# Altium schematic symbol library HEADER-Nx1.SchLib: 16 symbols
Pins are listed as number, name and electrical type; pins without a type are passive.

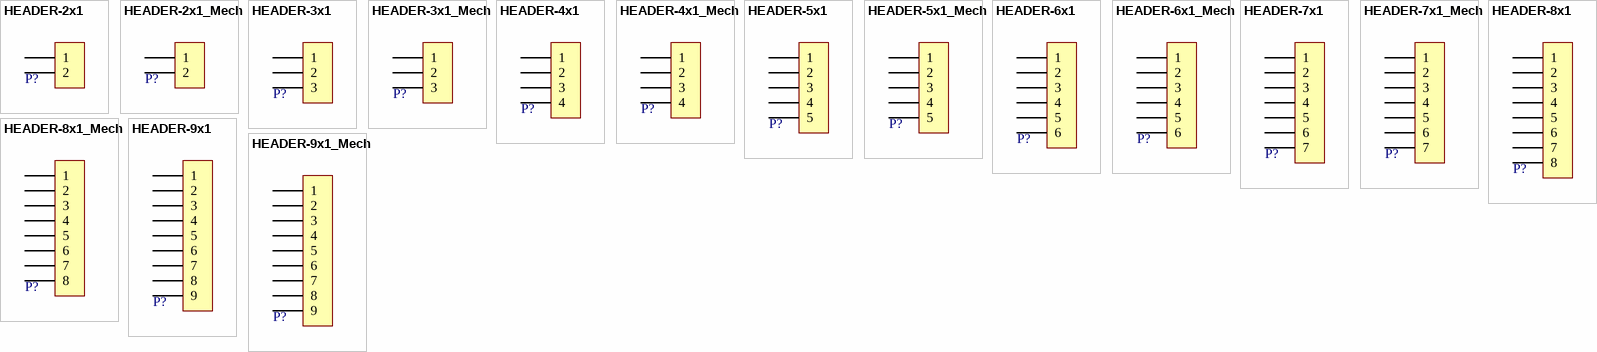
[diagram p0: symbols HEADER-2x1 to HEADER-9x1_Mech]

## HEADER-2x1
designator P?
pins: 1, 2

## HEADER-2x1_Mech
designator P?  (mechanical)
pins: 1, 2

## HEADER-3x1
designator P?
pins: 1, 2, 3

## HEADER-3x1_Mech
designator P?  (mechanical)
pins: 1, 2, 3

## HEADER-4x1
designator P?
pins: 1, 2, 3, 4

## HEADER-4x1_Mech
designator P?  (mechanical)
pins: 1, 2, 3, 4

## HEADER-5x1
designator P?
pins: 1, 2, 3, 4, 5

## HEADER-5x1_Mech
designator P?  (mechanical)
pins: 1, 2, 3, 4, 5

## HEADER-6x1
designator P?
pins: 1, 2, 3, 4, 5, 6

## HEADER-6x1_Mech
designator P?  (mechanical)
pins: 1, 2, 3, 4, 5, 6

## HEADER-7x1
designator P?
pins: 1, 2, 3, 4, 5, 6, 7

## HEADER-7x1_Mech
designator P?  (mechanical)
pins: 1, 2, 3, 4, 5, 6, 7

## HEADER-8x1
designator P?
pins: 1, 2, 3, 4, 5, 6, 7, 8

## HEADER-8x1_Mech
designator P?  (mechanical)
pins: 1, 2, 3, 4, 5, 6, 7, 8

## HEADER-9x1
designator P?
pins: 1, 2, 3, 4, 5, 6, 7, 8, 9

## HEADER-9x1_Mech
designator P?  (mechanical)
pins: 1, 2, 3, 4, 5, 6, 7, 8, 9